# Altium schematic symbol library SCH - DIODES - BAT46W-HE3-08.SCHLIB: 1 symbol
Pins are listed as number, name and electrical type; pins without a type are passive.

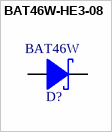
[diagram p0: symbol BAT46W-HE3-08]

## BAT46W-HE3-08
designator D?, comment BAT46W
Schottky Diode mit 100V Sperrspannung, 150mA Dauerstrom und 1V Durchlassspannung
pins: 1 A "Anode", 2 K "Katode"